# EAGLE library part SPU0410LR5H-QB (library Knowles_Microphone)
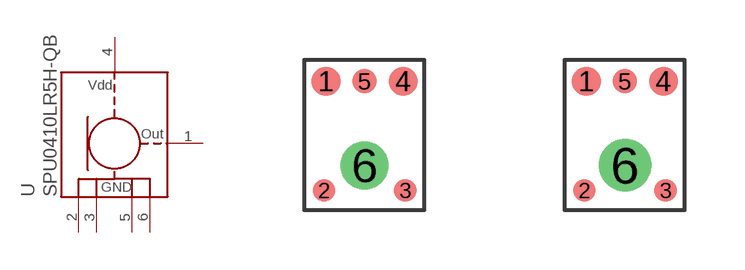
[diagram p0: symbol with the pads of SPU0410LR5H-QB_0.6; footprints SPU0410LR5H-QB_0.6, SPU0410LR5H-QB_0.8]

Designator prefix -

## SPU0410LR5H-QB (MIC: SPU04)  [SPU0410LR5H-QB_0.6]
1  OUT
2  GND
3  GND
4  VDD
5  GND
6  GND

## SPU0410LR5H-QBSPU0410LR5H-QB_0.8  [SPU0410LR5H-QB_0.8]
Pads as for SPU0410LR5H-QB_0.6

## Footprint SPU0410LR5H-QB_0.6 (pad centres in mm)
SPU0410LR5H-QB
smd 0.723 x 0.723: 1 -0.966,2.103; 4 0.966,2.103
smd 0.562 x 0.562: 2 -1.015,-0.634; 3 1.015,-0.634
smd 0.612 x 0.612: 5 0,2.103
drill 0.6 pad 1.2: 6 0,0

## Footprint SPU0410LR5H-QB_0.8 (pad centres in mm)
SPU0410LR5H-QB
smd 0.723 x 0.723: 1 -0.966,2.103; 4 0.966,2.103
smd 0.562 x 0.562: 2 -1.015,-0.634; 3 1.015,-0.634
smd 0.612 x 0.612: 5 0,2.103
drill 0.8 pad 1.2: 6 0,0